# EAGLE library part SLG55021-200010V (library pimoroni-ics)
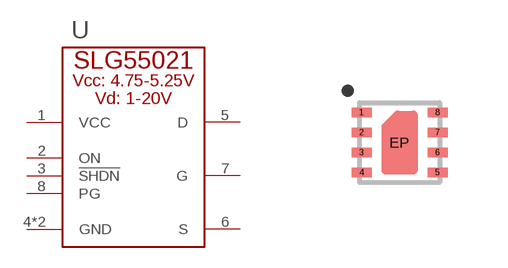
[diagram p154: symbol with the pads of DFN-8-2X2; footprint DFN-8-2X2]

Designator prefix U

## SLG55021-200010V  [DFN-8-2X2]
1  VCC
2  ON
3  !SHDN
4  GND
5  D
6  S
7  G
8  PG
EP  GND

## Footprint DFN-8-2X2 (pad centres in mm)
smd 0.5 x 0.23: 1 -0.95,0.75; 2 -0.95,0.25; 3 -0.95,-0.25; 4 -0.95,-0.75; 5 0.95,-0.75; 6 0.95,-0.25; 7 0.95,0.25; 8 0.95,0.75
smd 0.4 x 0.4: EP 0,0